# Altium schematic symbol library LPPB061NGCN.SchLib: 1 symbol
Pins are listed as number, name and electrical type; pins without a type are passive.

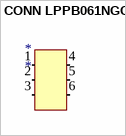
[diagram p0: symbol CONN LPPB061NGCN]

## CONN LPPB061NGCN
designator *
pins: 1 (in), 2 (in), 3 (in), 4 (in), 5 (in), 6 (in)